# Altium schematic symbol library oscillator.SchLib: 4 symbols
Pins are listed as number, name and electrical type; pins without a type are passive.

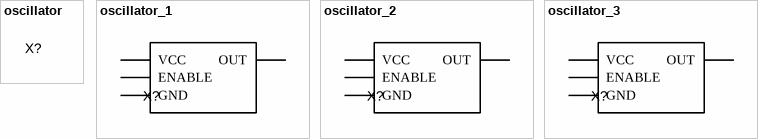
[diagram p0: symbols oscillator to oscillator_3]

## oscillator
designator X?
Template

## oscillator_1
designator X?, comment 25 MHz  (value not drawn)
Oscillator, 25MHz, 3.3V, 3.2mm x 2.5mm; Manufacturer 1: Suntsu Electronics, Inc.; Manufacturer Part Number 1: SXO32C3A071-25.000M; Supplier 1: Digi-Key; Supplier Part Number 1: 2388-SXO32C3A071-25.000M-ND; Link: https://www.digikey.no/product-detail/no/suntsu-electronics-inc/SXO32C3A071-25-000M/2388-SXO32C3A071-25-000M-ND/12167808
footprint SXO32C3A071-25.000M
pins: 1 ENABLE, 2 GND, 3 OUT, 4 VCC

## oscillator_2
designator X?, comment 8 MHz  (value not drawn)
Oscillator, 8MHz, 3.3V, 3.2mm x 2.5mm; Manufacturer 1: Microchip Technology; Manufacturer Part Number 1: DSC6001CE2A-008.0000; Supplier 1: Digi-Key; Supplier Part Number 1: DSC6001CE2A-008.0000-ND; Link: https://www.digikey.com/en/products/detail/microchip-technology/DSC6001CE2A-008-0000/7732669
footprint DSC6001CE2A-008.0000
pins: 1 ENABLE, 2 GND, 3 OUT, 4 VCC

## oscillator_3
designator X?, comment 8 MHz  (value not drawn)
Oscillator, 12MHz, 3.3V, 3.2mm x 2.5mm; Manufacturer 1: Abracon LLC; Manufacturer Part Number 1: ASE-12.000MHZ-LC-T; Supplier 1: Digi-Key; Supplier Part Number 1: 535-9561-2-ND; Link: https://www.digikey.no/no/products/detail/abracon-llc/ASE-12-000MHZ-LC-T/1236877
footprint ASE-12.000MHZ-LC-T
pins: 1 ENABLE, 2 GND, 3 OUT, 4 VCC